# EAGLE library part OPA847 (library op-amp)
OP-AMP Wideband, Ultra-Low Noise, Voltage-Feedback with Shutdown
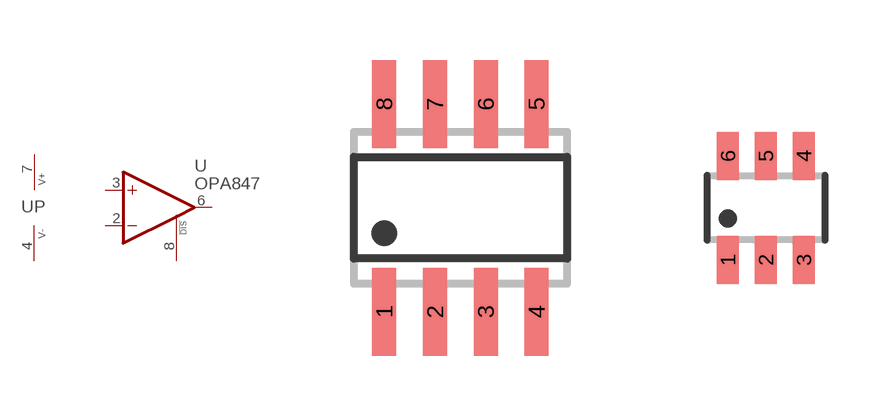
[diagram p70: symbol with the pads of SO08; footprints SO08, SOT23-6]

Designator prefix U; gates G$1=OPAMP_DIS P=PWR+-

## OPA847D  [SO08]
2  G$1:-IN  in
3  G$1:+IN  in
4  P:V-  pwr
6  G$1:OUT  out
7  P:V+  pwr
8  G$1:DIS  pas

## OPA847DBV  [SOT23-6]
1  G$1:OUT  out
2  P:V-  pwr
3  G$1:+IN  in
4  G$1:-IN  in
5  G$1:DIS  pas
6  P:V+  pwr

## Footprint SO08 (pad centres in mm)
SMALL OUTLINE INTEGRATED CIRCUIT body 3.9 mm/JEDEC MS-012AA
smd 0.6 x 2.2: 1 -1.905,-2.6; 2 -0.635,-2.6; 3 0.635,-2.6; 4 1.905,-2.6; 5 1.905,2.6; 6 0.635,2.6; 7 -0.635,2.6; 8 -1.905,2.6

## Footprint SOT23-6 (pad centres in mm)
SOT-23 - DBV 0.95 mm pitch
smd 0.55 x 1.2: 1 -0.95,-1.3; 2 0,-1.3; 3 0.95,-1.3; 4 0.95,1.3; 5 0,1.3; 6 -0.95,1.3